# Altium schematic symbol library 74HC595.SchLib: 1 symbol
Pins are listed as number, name and electrical type; pins without a type are passive.

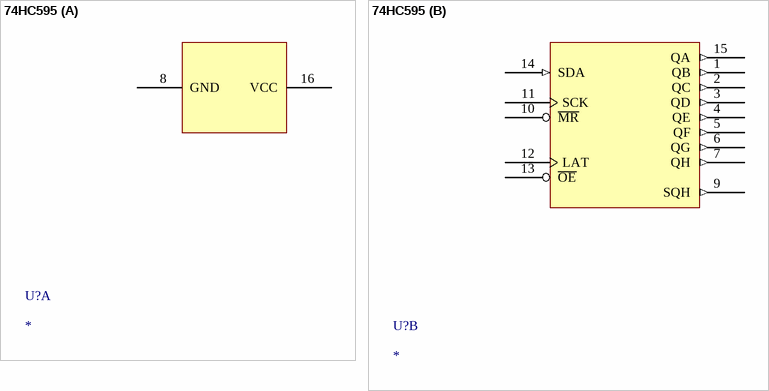
[diagram p0: symbol 74HC595]

## 74HC595
designator U?
Manufacturer: Texas Instruments; Logic Type: Shift Register; Output Type: Tri-State; Number of Elements: 1; Number of Bits per Element: 8; Function: Serial to Parallel, Serial; Voltage - Supply: 2V ~ 6V; Series: 74HC; Operating Temperature: -55°C ~ 125°C; Mounting Type: Through Hole; Package / Case: 16-DIP (0.300", 7.62mm); Supplier Device Package: 16-DIP; ComponentLink1Description: Datasheet; ComponentLink1URL: https://www.digikey.com/en/products/detail/texas-instruments/CD74HC595E/1507396
footprint PCBComponent_1
part A pins: 8 GND, 16 VCC
part B pins: 1 QB (out), 2 QC (out), 3 QD (out), 4 QE (out), 5 QF (out), 6 QG (out), 7 QH (out), 9 SQH (out), 10 ~{MR}, 11 SCK, 12 LAT, 13 ~{OE}, 14 SDA (in), 15 QA (out)